# EAGLE library part M05X02_MALE (library 1dah)
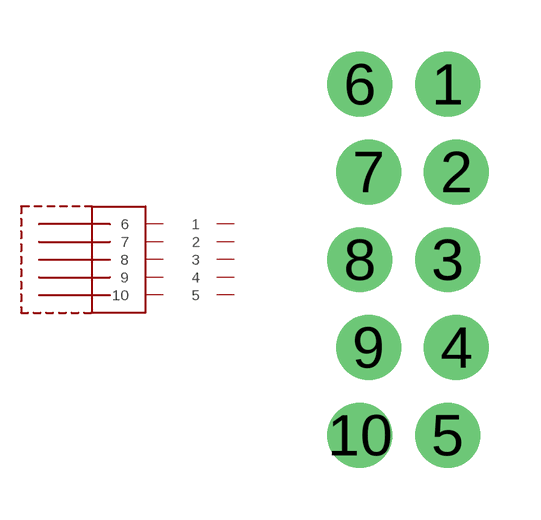
[diagram p68: symbol with the pads of 2X05_LOCK_RIGHT_ANGLE_MALE; footprint 2X05_LOCK_RIGHT_ANGLE_MALE]

Designator prefix -

## M05X02_MALE  [2X05_LOCK_RIGHT_ANGLE_MALE]
1  1
2  2
3  3
4  4
5  5
6  6
7  7
8  8
9  9
10  10

## Footprint 2X05_LOCK_RIGHT_ANGLE_MALE (pad centres in mm)
drill 1.016 pad 1.88: 1 6.223,5.08; 2 6.477,2.54; 3 6.223,0; 4 6.477,-2.54; 5 6.223,-5.08; 6 3.683,5.08; 7 3.937,2.54; 8 3.683,0; 9 3.937,-2.54; 10 3.683,-5.08